# EAGLE library part ADG452? (library adg451_adg452_adg453)
ANALOG DEVICES ADG452 LC2MOS SPST SWITCHES: 4 x NO "Case View" D=Drain, S=Source Case-Styles BRZ: SOIC 16 Standard Author: Dipl.-Ing. FH Rainer Bayer, rainer.bayer@hs-heilbronn.de
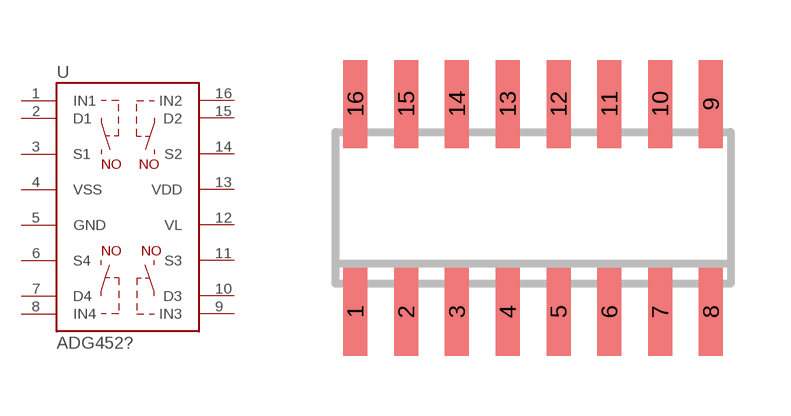
[diagram p4: symbol with the pads of SO16; footprint SO16]

Designator prefix U

## ADG452BRZ  [SO16]
1  IN1  in
2  D1  hiz
3  S1  hiz
4  VSS  pwr
5  GND  pwr
6  S4  hiz
7  D4  hiz
8  IN4  in
9  IN3  in
10  D3  hiz
11  S3  hiz
12  VL  pwr
13  VDD  pwr
14  S2  hiz
15  D2  hiz
16  IN2  in

## Footprint SO16 (pad centres in mm)
smd 0.6 x 2.2: 1 -4.445,-2.6; 2 -3.175,-2.6; 3 -1.905,-2.6; 4 -0.635,-2.6; 5 0.635,-2.6; 6 1.905,-2.6; 7 3.175,-2.6; 8 4.445,-2.6; 9 4.445,2.6; 10 3.175,2.6; 11 1.905,2.6; 12 0.635,2.6; 13 -0.635,2.6; 14 -1.905,2.6; 15 -3.175,2.6; 16 -4.445,2.6